# Altium footprint library Connector_Samtec.PcbLib: 27 footprints (part 2 of 2)
Each footprint in its own frame and in the unit in brackets; x right, y up, seen from the top. Pads: shape width x height; smd on the part's side, far side on the other; paste and mask are expansions set on the pad; w line width, h text height; cw(c..) or ccw(c..) is an arc to the next point about the centre after c.
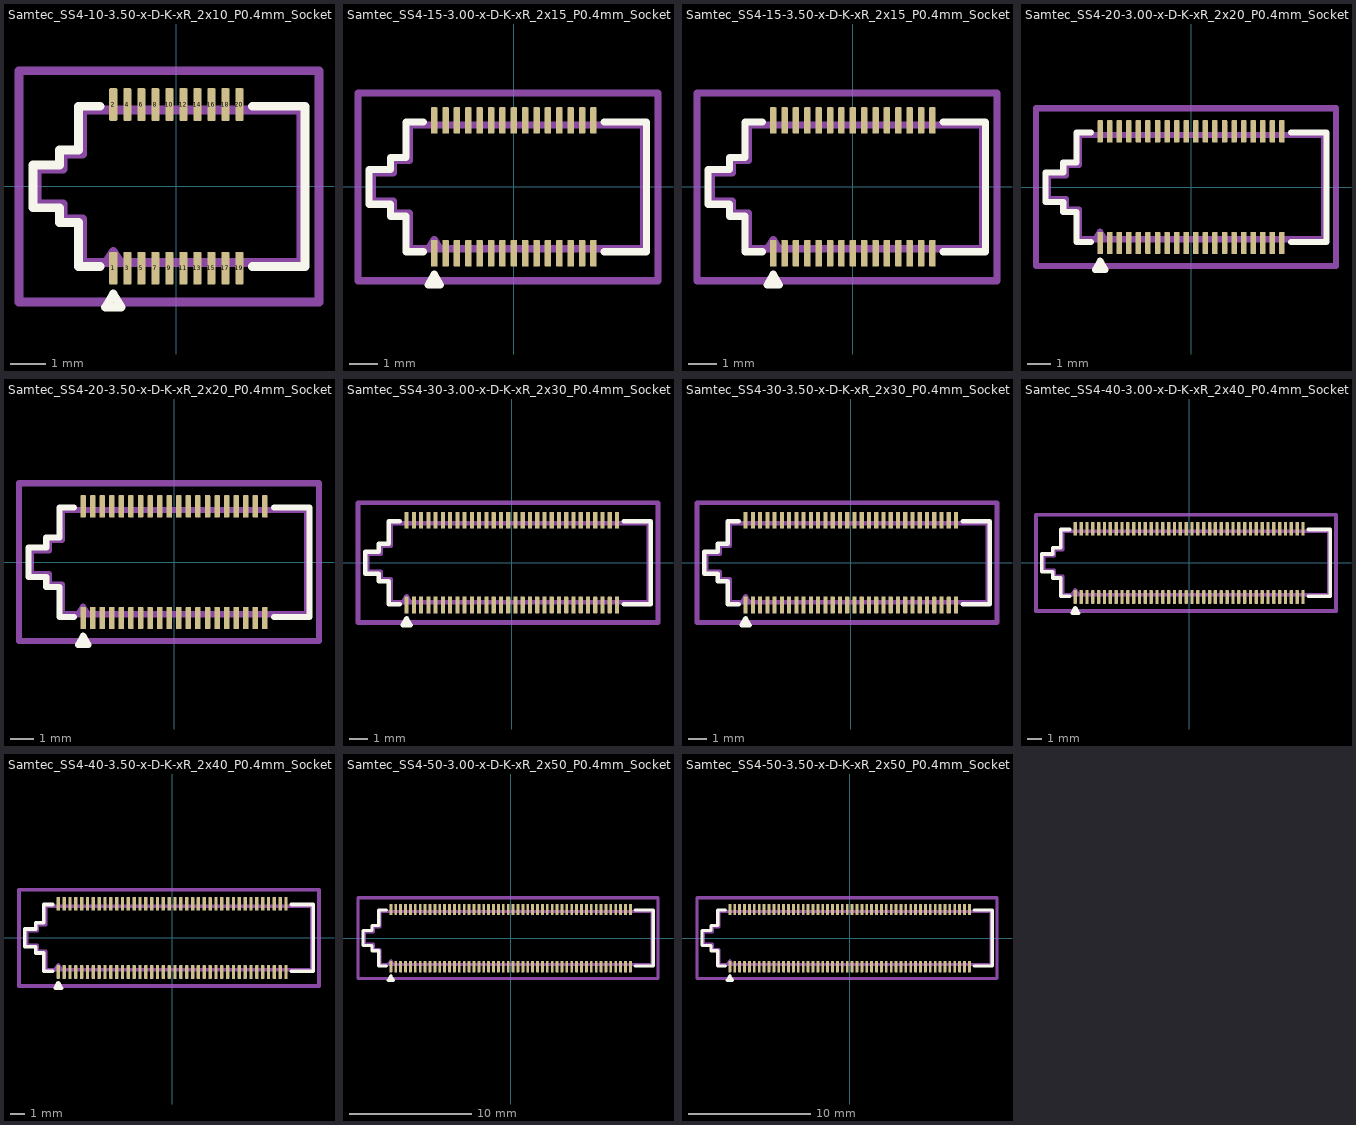
[diagram p1: the footprints below, top view; thin cyan lines are the x and y axes]

## Samtec_SS4-10-3.50-x-D-K-xR_2x10_P0.4mm_Socket [mm]
pads (20):
  rrect25% 0.23x0.93 smd: 1(-1.8,-2.335) 2(-1.8,2.335) 3(-1.4,-2.335) 4(-1.4,2.335) 5(-1,-2.335) 6(-1,2.335) 7(-0.6,-2.335) 8(-0.6,2.335) 9(-0.2,-2.335) 10(-0.2,2.335) 11(0.2,-2.335) 12(0.2,2.335) 13(0.6,-2.335) 14(0.6,2.335) 15(1,-2.335) 16(1,2.335) 17(1.4,-2.335) 18(1.4,2.335) 19(1.8,-2.335) 20(1.8,2.335)
F.SilkS:
  lines w0.254: -2.175,-2.285 -2.79,-2.285 -2.79,-1.035 -3.34,-1.035 -3.34,-0.61 -4.09,-0.61 -4.09,0.61 -3.34,0.61 -3.34,1.035 -2.79,1.035 -2.79,2.285 -2.175,2.285 ; 2.175,-2.285 3.67,-2.285 3.67,2.285 2.175,2.285 ; -2.017,-3.45 -1.583,-3.45 -1.8,-3.075 -2.017,-3.45
Top Assembly:
  lines w0.254: -2,-2.175 -1.8,-1.855 -1.6,-2.175 ; -3.98,-0.5 -3.23,-0.5 -3.23,-0.925 -2.68,-0.925 -2.68,-2.175 3.56,-2.175 3.56,2.175 -2.68,2.175 -2.68,0.925 -3.23,0.925 -3.23,0.5 -3.98,0.5 -3.98,-0.5
  text "'.Designator'" at -3.647,-0.761 h0.9
Top Courtyard:
  lines w0.254: -4.49,-3.3 4.07,-3.3 4.07,3.3 -4.49,3.3 -4.49,-3.3
Top Designator:
  text ".Designator" at -7.828,-0.583 h1.52

## Samtec_SS4-15-3.00-x-D-K-xR_2x15_P0.4mm_Socket [mm]
pads (30):
  rrect25% 0.23x0.93 smd: 1(-2.8,-2.335) 2(-2.8,2.335) 3(-2.4,-2.335) 4(-2.4,2.335) 5(-2,-2.335) 6(-2,2.335) 7(-1.6,-2.335) 8(-1.6,2.335) 9(-1.2,-2.335) 10(-1.2,2.335) 11(-0.8,-2.335) 12(-0.8,2.335) 13(-0.4,-2.335) 14(-0.4,2.335) 15(0,-2.335) 16(0,2.335) 17(0.4,-2.335) 18(0.4,2.335) 19(0.8,-2.335) 20(0.8,2.335) 21(1.2,-2.335) 22(1.2,2.335) 23(1.6,-2.335) 24(1.6,2.335) 25(2,-2.335) 26(2,2.335) 27(2.4,-2.335) 28(2.4,2.335) 29(2.8,-2.335) 30(2.8,2.335)
F.SilkS:
  lines w0.254: -3.175,-2.285 -3.79,-2.285 -3.79,-1.035 -4.34,-1.035 -4.34,-0.61 -5.09,-0.61 -5.09,0.61 -4.34,0.61 -4.34,1.035 -3.79,1.035 -3.79,2.285 -3.175,2.285 ; 3.175,-2.285 4.67,-2.285 4.67,2.285 3.175,2.285 ; -3.017,-3.45 -2.583,-3.45 -2.8,-3.075 -3.017,-3.45
Top Assembly:
  lines w0.254: -3,-2.175 -2.8,-1.855 -2.6,-2.175 ; -4.98,-0.5 -4.23,-0.5 -4.23,-0.925 -3.68,-0.925 -3.68,-2.175 4.56,-2.175 4.56,2.175 -3.68,2.175 -3.68,0.925 -4.23,0.925 -4.23,0.5 -4.98,0.5 -4.98,-0.5
  text "'.Designator'" at -4.047,-0.84 h1
Top Courtyard:
  lines w0.254: -5.48,-3.3 5.07,-3.3 5.07,3.3 -5.48,3.3 -5.48,-3.3
Top Designator:
  text ".Designator" at -7.823,-0.583 h1.52

## Samtec_SS4-15-3.50-x-D-K-xR_2x15_P0.4mm_Socket [mm]
pads (30):
  rrect25% 0.23x0.93 smd: 1(-2.8,-2.335) 2(-2.8,2.335) 3(-2.4,-2.335) 4(-2.4,2.335) 5(-2,-2.335) 6(-2,2.335) 7(-1.6,-2.335) 8(-1.6,2.335) 9(-1.2,-2.335) 10(-1.2,2.335) 11(-0.8,-2.335) 12(-0.8,2.335) 13(-0.4,-2.335) 14(-0.4,2.335) 15(0,-2.335) 16(0,2.335) 17(0.4,-2.335) 18(0.4,2.335) 19(0.8,-2.335) 20(0.8,2.335) 21(1.2,-2.335) 22(1.2,2.335) 23(1.6,-2.335) 24(1.6,2.335) 25(2,-2.335) 26(2,2.335) 27(2.4,-2.335) 28(2.4,2.335) 29(2.8,-2.335) 30(2.8,2.335)
F.SilkS:
  lines w0.254: -3.175,-2.285 -3.79,-2.285 -3.79,-1.035 -4.34,-1.035 -4.34,-0.61 -5.09,-0.61 -5.09,0.61 -4.34,0.61 -4.34,1.035 -3.79,1.035 -3.79,2.285 -3.175,2.285 ; 3.175,-2.285 4.67,-2.285 4.67,2.285 3.175,2.285 ; -3.017,-3.45 -2.583,-3.45 -2.8,-3.075 -3.017,-3.45
Top Assembly:
  lines w0.254: -3,-2.175 -2.8,-1.855 -2.6,-2.175 ; -4.98,-0.5 -4.23,-0.5 -4.23,-0.925 -3.68,-0.925 -3.68,-2.175 4.56,-2.175 4.56,2.175 -3.68,2.175 -3.68,0.925 -4.23,0.925 -4.23,0.5 -4.98,0.5 -4.98,-0.5
  text "'.Designator'" at -4.047,-0.84 h1
Top Courtyard:
  lines w0.254: -5.48,-3.3 5.07,-3.3 5.07,3.3 -5.48,3.3 -5.48,-3.3
Top Designator:
  text ".Designator" at -7.823,-0.583 h1.52

## Samtec_SS4-20-3.00-x-D-K-xR_2x20_P0.4mm_Socket [mm]
pads (40):
  rrect25% 0.23x0.93 smd: 1(-3.8,-2.335) 2(-3.8,2.335) 3(-3.4,-2.335) 4(-3.4,2.335) 5(-3,-2.335) 6(-3,2.335) 7(-2.6,-2.335) 8(-2.6,2.335) 9(-2.2,-2.335) 10(-2.2,2.335) 11(-1.8,-2.335) 12(-1.8,2.335) 13(-1.4,-2.335) 14(-1.4,2.335) 15(-1,-2.335) 16(-1,2.335) 17(-0.6,-2.335) 18(-0.6,2.335) 19(-0.2,-2.335) 20(-0.2,2.335) 21(0.2,-2.335) 22(0.2,2.335) 23(0.6,-2.335) 24(0.6,2.335) 25(1,-2.335) 26(1,2.335) 27(1.4,-2.335) 28(1.4,2.335) 29(1.8,-2.335) 30(1.8,2.335) 31(2.2,-2.335) 32(2.2,2.335) 33(2.6,-2.335) 34(2.6,2.335) 35(3,-2.335) 36(3,2.335) 37(3.4,-2.335) 38(3.4,2.335) 39(3.8,-2.335) 40(3.8,2.335)
F.SilkS:
  lines w0.254: -4.175,-2.285 -4.79,-2.285 -4.79,-1.035 -5.34,-1.035 -5.34,-0.61 -6.09,-0.61 -6.09,0.61 -5.34,0.61 -5.34,1.035 -4.79,1.035 -4.79,2.285 -4.175,2.285 ; 4.175,-2.285 5.67,-2.285 5.67,2.285 4.175,2.285 ; -4.017,-3.45 -3.583,-3.45 -3.8,-3.075 -4.017,-3.45
Top Assembly:
  lines w0.254: -4,-2.175 -3.8,-1.855 -3.6,-2.175 ; -5.98,-0.5 -5.23,-0.5 -5.23,-0.925 -4.68,-0.925 -4.68,-2.175 5.56,-2.175 5.56,2.175 -4.68,2.175 -4.68,0.925 -5.23,0.925 -5.23,0.5 -5.98,0.5 -5.98,-0.5
  text "'.Designator'" at -4.047,-0.84 h1
Top Courtyard:
  lines w0.254: -6.48,-3.3 6.06,-3.3 6.06,3.3 -6.48,3.3 -6.48,-3.3
Top Designator:
  text ".Designator" at -7.828,-0.583 h1.52

## Samtec_SS4-20-3.50-x-D-K-xR_2x20_P0.4mm_Socket [mm]
pads (40):
  rrect25% 0.23x0.93 smd: 1(-3.8,-2.335) 2(-3.8,2.335) 3(-3.4,-2.335) 4(-3.4,2.335) 5(-3,-2.335) 6(-3,2.335) 7(-2.6,-2.335) 8(-2.6,2.335) 9(-2.2,-2.335) 10(-2.2,2.335) 11(-1.8,-2.335) 12(-1.8,2.335) 13(-1.4,-2.335) 14(-1.4,2.335) 15(-1,-2.335) 16(-1,2.335) 17(-0.6,-2.335) 18(-0.6,2.335) 19(-0.2,-2.335) 20(-0.2,2.335) 21(0.2,-2.335) 22(0.2,2.335) 23(0.6,-2.335) 24(0.6,2.335) 25(1,-2.335) 26(1,2.335) 27(1.4,-2.335) 28(1.4,2.335) 29(1.8,-2.335) 30(1.8,2.335) 31(2.2,-2.335) 32(2.2,2.335) 33(2.6,-2.335) 34(2.6,2.335) 35(3,-2.335) 36(3,2.335) 37(3.4,-2.335) 38(3.4,2.335) 39(3.8,-2.335) 40(3.8,2.335)
F.SilkS:
  lines w0.254: -4.175,-2.285 -4.79,-2.285 -4.79,-1.035 -5.34,-1.035 -5.34,-0.61 -6.09,-0.61 -6.09,0.61 -5.34,0.61 -5.34,1.035 -4.79,1.035 -4.79,2.285 -4.175,2.285 ; 4.175,-2.285 5.67,-2.285 5.67,2.285 4.175,2.285 ; -4.017,-3.45 -3.583,-3.45 -3.8,-3.075 -4.017,-3.45
Top Assembly:
  lines w0.254: -4,-2.175 -3.8,-1.855 -3.6,-2.175 ; -5.98,-0.5 -5.23,-0.5 -5.23,-0.925 -4.68,-0.925 -4.68,-2.175 5.56,-2.175 5.56,2.175 -4.68,2.175 -4.68,0.925 -5.23,0.925 -5.23,0.5 -5.98,0.5 -5.98,-0.5
  text "'.Designator'" at -4.047,-0.84 h1
Top Courtyard:
  lines w0.254: -6.48,-3.3 6.06,-3.3 6.06,3.3 -6.48,3.3 -6.48,-3.3
Top Designator:
  text ".Designator" at -7.828,-0.583 h1.52

## Samtec_SS4-30-3.00-x-D-K-xR_2x30_P0.4mm_Socket [mm]
pads (60):
  rrect25% 0.23x0.93 smd: 1(-5.8,-2.335) 2(-5.8,2.335) 3(-5.4,-2.335) 4(-5.4,2.335) 5(-5,-2.335) 6(-5,2.335) 7(-4.6,-2.335) 8(-4.6,2.335) 9(-4.2,-2.335) 10(-4.2,2.335) 11(-3.8,-2.335) 12(-3.8,2.335) 13(-3.4,-2.335) 14(-3.4,2.335) 15(-3,-2.335) 16(-3,2.335) 17(-2.6,-2.335) 18(-2.6,2.335) 19(-2.2,-2.335) 20(-2.2,2.335) 21(-1.8,-2.335) 22(-1.8,2.335) 23(-1.4,-2.335) 24(-1.4,2.335) 25(-1,-2.335) 26(-1,2.335) 27(-0.6,-2.335) 28(-0.6,2.335) 29(-0.2,-2.335) 30(-0.2,2.335) 31(0.2,-2.335) 32(0.2,2.335) 33(0.6,-2.335) 34(0.6,2.335) 35(1,-2.335) 36(1,2.335) 37(1.4,-2.335) 38(1.4,2.335) 39(1.8,-2.335) 40(1.8,2.335) 41(2.2,-2.335) 42(2.2,2.335) 43(2.6,-2.335) 44(2.6,2.335) 45(3,-2.335) 46(3,2.335) 47(3.4,-2.335) 48(3.4,2.335) 49(3.8,-2.335) 50(3.8,2.335) 51(4.2,-2.335) 52(4.2,2.335) 53(4.6,-2.335) 54(4.6,2.335) 55(5,-2.335) 56(5,2.335) 57(5.4,-2.335) 58(5.4,2.335) 59(5.8,-2.335) 60(5.8,2.335)
F.SilkS:
  lines w0.254: -6.175,-2.285 -6.79,-2.285 -6.79,-1.035 -7.34,-1.035 -7.34,-0.61 -8.09,-0.61 -8.09,0.61 -7.34,0.61 -7.34,1.035 -6.79,1.035 -6.79,2.285 -6.175,2.285 ; 6.175,-2.285 7.67,-2.285 7.67,2.285 6.175,2.285 ; -6.017,-3.45 -5.583,-3.45 -5.8,-3.075 -6.017,-3.45
Top Assembly:
  lines w0.254: -6,-2.175 -5.8,-1.855 -5.6,-2.175 ; -7.98,-0.5 -7.23,-0.5 -7.23,-0.925 -6.68,-0.925 -6.68,-2.175 7.56,-2.175 7.56,2.175 -6.68,2.175 -6.68,0.925 -7.23,0.925 -7.23,0.5 -7.98,0.5 -7.98,-0.5
  text "'.Designator'" at -4.047,-0.84 h1
Top Courtyard:
  lines w0.254: -8.48,-3.3 8.06,-3.3 8.06,3.3 -8.48,3.3 -8.48,-3.3
Top Designator:
  text ".Designator" at -7.828,-0.583 h1.52

## Samtec_SS4-30-3.50-x-D-K-xR_2x30_P0.4mm_Socket [mm]
pads (60):
  rrect25% 0.23x0.93 smd: 1(-5.8,-2.335) 2(-5.8,2.335) 3(-5.4,-2.335) 4(-5.4,2.335) 5(-5,-2.335) 6(-5,2.335) 7(-4.6,-2.335) 8(-4.6,2.335) 9(-4.2,-2.335) 10(-4.2,2.335) 11(-3.8,-2.335) 12(-3.8,2.335) 13(-3.4,-2.335) 14(-3.4,2.335) 15(-3,-2.335) 16(-3,2.335) 17(-2.6,-2.335) 18(-2.6,2.335) 19(-2.2,-2.335) 20(-2.2,2.335) 21(-1.8,-2.335) 22(-1.8,2.335) 23(-1.4,-2.335) 24(-1.4,2.335) 25(-1,-2.335) 26(-1,2.335) 27(-0.6,-2.335) 28(-0.6,2.335) 29(-0.2,-2.335) 30(-0.2,2.335) 31(0.2,-2.335) 32(0.2,2.335) 33(0.6,-2.335) 34(0.6,2.335) 35(1,-2.335) 36(1,2.335) 37(1.4,-2.335) 38(1.4,2.335) 39(1.8,-2.335) 40(1.8,2.335) 41(2.2,-2.335) 42(2.2,2.335) 43(2.6,-2.335) 44(2.6,2.335) 45(3,-2.335) 46(3,2.335) 47(3.4,-2.335) 48(3.4,2.335) 49(3.8,-2.335) 50(3.8,2.335) 51(4.2,-2.335) 52(4.2,2.335) 53(4.6,-2.335) 54(4.6,2.335) 55(5,-2.335) 56(5,2.335) 57(5.4,-2.335) 58(5.4,2.335) 59(5.8,-2.335) 60(5.8,2.335)
F.SilkS:
  lines w0.254: -6.175,-2.285 -6.79,-2.285 -6.79,-1.035 -7.34,-1.035 -7.34,-0.61 -8.09,-0.61 -8.09,0.61 -7.34,0.61 -7.34,1.035 -6.79,1.035 -6.79,2.285 -6.175,2.285 ; 6.175,-2.285 7.67,-2.285 7.67,2.285 6.175,2.285 ; -6.017,-3.45 -5.583,-3.45 -5.8,-3.075 -6.017,-3.45
Top Assembly:
  lines w0.254: -6,-2.175 -5.8,-1.855 -5.6,-2.175 ; -7.98,-0.5 -7.23,-0.5 -7.23,-0.925 -6.68,-0.925 -6.68,-2.175 7.56,-2.175 7.56,2.175 -6.68,2.175 -6.68,0.925 -7.23,0.925 -7.23,0.5 -7.98,0.5 -7.98,-0.5
  text "'.Designator'" at -4.047,-0.84 h1
Top Courtyard:
  lines w0.254: -8.48,-3.3 8.06,-3.3 8.06,3.3 -8.48,3.3 -8.48,-3.3
Top Designator:
  text ".Designator" at -7.828,-0.583 h1.52

## Samtec_SS4-40-3.00-x-D-K-xR_2x40_P0.4mm_Socket [mm]
pads (80):
  rrect25% 0.23x0.93 smd: 1(-7.8,-2.335) 2(-7.8,2.335) 3(-7.4,-2.335) 4(-7.4,2.335) 5(-7,-2.335) 6(-7,2.335) 7(-6.6,-2.335) 8(-6.6,2.335) 9(-6.2,-2.335) 10(-6.2,2.335) 11(-5.8,-2.335) 12(-5.8,2.335) 13(-5.4,-2.335) 14(-5.4,2.335) 15(-5,-2.335) 16(-5,2.335) 17(-4.6,-2.335) 18(-4.6,2.335) 19(-4.2,-2.335) 20(-4.2,2.335) 21(-3.8,-2.335) 22(-3.8,2.335) 23(-3.4,-2.335) 24(-3.4,2.335) 25(-3,-2.335) 26(-3,2.335) 27(-2.6,-2.335) 28(-2.6,2.335) 29(-2.2,-2.335) 30(-2.2,2.335) 31(-1.8,-2.335) 32(-1.8,2.335) 33(-1.4,-2.335) 34(-1.4,2.335) 35(-1,-2.335) 36(-1,2.335) 37(-0.6,-2.335) 38(-0.6,2.335) 39(-0.2,-2.335) 40(-0.2,2.335) 41(0.2,-2.335) 42(0.2,2.335) 43(0.6,-2.335) 44(0.6,2.335) 45(1,-2.335) 46(1,2.335) 47(1.4,-2.335) 48(1.4,2.335) 49(1.8,-2.335) 50(1.8,2.335) 51(2.2,-2.335) 52(2.2,2.335) 53(2.6,-2.335) 54(2.6,2.335) 55(3,-2.335) 56(3,2.335) 57(3.4,-2.335) 58(3.4,2.335) 59(3.8,-2.335) 60(3.8,2.335) 61(4.2,-2.335) 62(4.2,2.335) 63(4.6,-2.335) 64(4.6,2.335) 65(5,-2.335) 66(5,2.335) 67(5.4,-2.335) 68(5.4,2.335) 69(5.8,-2.335) 70(5.8,2.335) 71(6.2,-2.335) 72(6.2,2.335) 73(6.6,-2.335) 74(6.6,2.335) 75(7,-2.335) 76(7,2.335) 77(7.4,-2.335) 78(7.4,2.335) 79(7.8,-2.335) 80(7.8,2.335)
F.SilkS:
  lines w0.254: -8.175,-2.285 -8.79,-2.285 -8.79,-1.035 -9.34,-1.035 -9.34,-0.61 -10.09,-0.61 -10.09,0.61 -9.34,0.61 -9.34,1.035 -8.79,1.035 -8.79,2.285 -8.175,2.285 ; 8.175,-2.285 9.67,-2.285 9.67,2.285 8.175,2.285 ; -8.017,-3.45 -7.583,-3.45 -7.8,-3.075 -8.017,-3.45
Top Assembly:
  lines w0.254: -8,-2.175 -7.8,-1.855 -7.6,-2.175 ; -9.98,-0.5 -9.23,-0.5 -9.23,-0.925 -8.68,-0.925 -8.68,-2.175 9.56,-2.175 9.56,2.175 -8.68,2.175 -8.68,0.925 -9.23,0.925 -9.23,0.5 -9.98,0.5 -9.98,-0.5
  text "'.Designator'" at -4.047,-0.84 h1
Top Courtyard:
  lines w0.254: -10.49,-3.3 10.06,-3.3 10.06,3.3 -10.49,3.3 -10.49,-3.3
Top Designator:
  text ".Designator" at -7.833,-0.583 h1.52

## Samtec_SS4-40-3.50-x-D-K-xR_2x40_P0.4mm_Socket [mm]
pads (80):
  rrect25% 0.23x0.93 smd: 1(-7.8,-2.335) 2(-7.8,2.335) 3(-7.4,-2.335) 4(-7.4,2.335) 5(-7,-2.335) 6(-7,2.335) 7(-6.6,-2.335) 8(-6.6,2.335) 9(-6.2,-2.335) 10(-6.2,2.335) 11(-5.8,-2.335) 12(-5.8,2.335) 13(-5.4,-2.335) 14(-5.4,2.335) 15(-5,-2.335) 16(-5,2.335) 17(-4.6,-2.335) 18(-4.6,2.335) 19(-4.2,-2.335) 20(-4.2,2.335) 21(-3.8,-2.335) 22(-3.8,2.335) 23(-3.4,-2.335) 24(-3.4,2.335) 25(-3,-2.335) 26(-3,2.335) 27(-2.6,-2.335) 28(-2.6,2.335) 29(-2.2,-2.335) 30(-2.2,2.335) 31(-1.8,-2.335) 32(-1.8,2.335) 33(-1.4,-2.335) 34(-1.4,2.335) 35(-1,-2.335) 36(-1,2.335) 37(-0.6,-2.335) 38(-0.6,2.335) 39(-0.2,-2.335) 40(-0.2,2.335) 41(0.2,-2.335) 42(0.2,2.335) 43(0.6,-2.335) 44(0.6,2.335) 45(1,-2.335) 46(1,2.335) 47(1.4,-2.335) 48(1.4,2.335) 49(1.8,-2.335) 50(1.8,2.335) 51(2.2,-2.335) 52(2.2,2.335) 53(2.6,-2.335) 54(2.6,2.335) 55(3,-2.335) 56(3,2.335) 57(3.4,-2.335) 58(3.4,2.335) 59(3.8,-2.335) 60(3.8,2.335) 61(4.2,-2.335) 62(4.2,2.335) 63(4.6,-2.335) 64(4.6,2.335) 65(5,-2.335) 66(5,2.335) 67(5.4,-2.335) 68(5.4,2.335) 69(5.8,-2.335) 70(5.8,2.335) 71(6.2,-2.335) 72(6.2,2.335) 73(6.6,-2.335) 74(6.6,2.335) 75(7,-2.335) 76(7,2.335) 77(7.4,-2.335) 78(7.4,2.335) 79(7.8,-2.335) 80(7.8,2.335)
F.SilkS:
  lines w0.254: -8.175,-2.285 -8.79,-2.285 -8.79,-1.035 -9.34,-1.035 -9.34,-0.61 -10.09,-0.61 -10.09,0.61 -9.34,0.61 -9.34,1.035 -8.79,1.035 -8.79,2.285 -8.175,2.285 ; 8.175,-2.285 9.67,-2.285 9.67,2.285 8.175,2.285 ; -8.017,-3.45 -7.583,-3.45 -7.8,-3.075 -8.017,-3.45
Top Assembly:
  lines w0.254: -8,-2.175 -7.8,-1.855 -7.6,-2.175 ; -9.98,-0.5 -9.23,-0.5 -9.23,-0.925 -8.68,-0.925 -8.68,-2.175 9.56,-2.175 9.56,2.175 -8.68,2.175 -8.68,0.925 -9.23,0.925 -9.23,0.5 -9.98,0.5 -9.98,-0.5
  text "'.Designator'" at -4.047,-0.84 h1
Top Courtyard:
  lines w0.254: -10.49,-3.3 10.06,-3.3 10.06,3.3 -10.49,3.3 -10.49,-3.3
Top Designator:
  text ".Designator" at -7.833,-0.583 h1.52

## Samtec_SS4-50-3.00-x-D-K-xR_2x50_P0.4mm_Socket [mm]
pads (100):
  rrect25% 0.23x0.93 smd: 1(-9.8,-2.335) 2(-9.8,2.335) 3(-9.4,-2.335) 4(-9.4,2.335) 5(-9,-2.335) 6(-9,2.335) 7(-8.6,-2.335) 8(-8.6,2.335) 9(-8.2,-2.335) 10(-8.2,2.335) 11(-7.8,-2.335) 12(-7.8,2.335) 13(-7.4,-2.335) 14(-7.4,2.335) 15(-7,-2.335) 16(-7,2.335) 17(-6.6,-2.335) 18(-6.6,2.335) 19(-6.2,-2.335) 20(-6.2,2.335) 21(-5.8,-2.335) 22(-5.8,2.335) 23(-5.4,-2.335) 24(-5.4,2.335) 25(-5,-2.335) 26(-5,2.335) 27(-4.6,-2.335) 28(-4.6,2.335) 29(-4.2,-2.335) 30(-4.2,2.335) 31(-3.8,-2.335) 32(-3.8,2.335) 33(-3.4,-2.335) 34(-3.4,2.335) 35(-3,-2.335) 36(-3,2.335) 37(-2.6,-2.335) 38(-2.6,2.335) 39(-2.2,-2.335) 40(-2.2,2.335) 41(-1.8,-2.335) 42(-1.8,2.335) 43(-1.4,-2.335) 44(-1.4,2.335) 45(-1,-2.335) 46(-1,2.335) 47(-0.6,-2.335) 48(-0.6,2.335) 49(-0.2,-2.335) 50(-0.2,2.335) 51(0.2,-2.335) 52(0.2,2.335) 53(0.6,-2.335) 54(0.6,2.335) 55(1,-2.335) 56(1,2.335) 57(1.4,-2.335) 58(1.4,2.335) 59(1.8,-2.335) 60(1.8,2.335) 61(2.2,-2.335) 62(2.2,2.335) 63(2.6,-2.335) 64(2.6,2.335) 65(3,-2.335) 66(3,2.335) 67(3.4,-2.335) 68(3.4,2.335) 69(3.8,-2.335) 70(3.8,2.335) 71(4.2,-2.335) 72(4.2,2.335) 73(4.6,-2.335) 74(4.6,2.335) 75(5,-2.335) 76(5,2.335) 77(5.4,-2.335) 78(5.4,2.335) 79(5.8,-2.335) 80(5.8,2.335) 81(6.2,-2.335) 82(6.2,2.335) 83(6.6,-2.335) 84(6.6,2.335) 85(7,-2.335) 86(7,2.335) 87(7.4,-2.335) 88(7.4,2.335) 89(7.8,-2.335) 90(7.8,2.335) 91(8.2,-2.335) 92(8.2,2.335) 93(8.6,-2.335) 94(8.6,2.335) 95(9,-2.335) 96(9,2.335) 97(9.4,-2.335) 98(9.4,2.335) 99(9.8,-2.335) 100(9.8,2.335)
F.SilkS:
  lines w0.254: -10.175,-2.285 -10.79,-2.285 -10.79,-1.035 -11.34,-1.035 -11.34,-0.61 -12.09,-0.61 -12.09,0.61 -11.34,0.61 -11.34,1.035 -10.79,1.035 -10.79,2.285 -10.175,2.285 ; 10.175,-2.285 11.67,-2.285 11.67,2.285 10.175,2.285 ; -10.017,-3.45 -9.583,-3.45 -9.8,-3.075 -10.017,-3.45
Top Assembly:
  lines w0.254: -10,-2.175 -9.8,-1.855 -9.6,-2.175 ; -11.98,-0.5 -11.23,-0.5 -11.23,-0.925 -10.68,-0.925 -10.68,-2.175 11.56,-2.175 11.56,2.175 -10.68,2.175 -10.68,0.925 -11.23,0.925 -11.23,0.5 -11.98,0.5 -11.98,-0.5
  text "'.Designator'" at -4.047,-0.84 h1
Top Courtyard:
  lines w0.254: -12.49,-3.3 12.06,-3.3 12.06,3.3 -12.49,3.3 -12.49,-3.3
Top Designator:
  text ".Designator" at -7.833,-0.583 h1.52

## Samtec_SS4-50-3.50-x-D-K-xR_2x50_P0.4mm_Socket [mm]
pads (100):
  rrect25% 0.23x0.93 smd: 1(-9.8,-2.335) 2(-9.8,2.335) 3(-9.4,-2.335) 4(-9.4,2.335) 5(-9,-2.335) 6(-9,2.335) 7(-8.6,-2.335) 8(-8.6,2.335) 9(-8.2,-2.335) 10(-8.2,2.335) 11(-7.8,-2.335) 12(-7.8,2.335) 13(-7.4,-2.335) 14(-7.4,2.335) 15(-7,-2.335) 16(-7,2.335) 17(-6.6,-2.335) 18(-6.6,2.335) 19(-6.2,-2.335) 20(-6.2,2.335) 21(-5.8,-2.335) 22(-5.8,2.335) 23(-5.4,-2.335) 24(-5.4,2.335) 25(-5,-2.335) 26(-5,2.335) 27(-4.6,-2.335) 28(-4.6,2.335) 29(-4.2,-2.335) 30(-4.2,2.335) 31(-3.8,-2.335) 32(-3.8,2.335) 33(-3.4,-2.335) 34(-3.4,2.335) 35(-3,-2.335) 36(-3,2.335) 37(-2.6,-2.335) 38(-2.6,2.335) 39(-2.2,-2.335) 40(-2.2,2.335) 41(-1.8,-2.335) 42(-1.8,2.335) 43(-1.4,-2.335) 44(-1.4,2.335) 45(-1,-2.335) 46(-1,2.335) 47(-0.6,-2.335) 48(-0.6,2.335) 49(-0.2,-2.335) 50(-0.2,2.335) 51(0.2,-2.335) 52(0.2,2.335) 53(0.6,-2.335) 54(0.6,2.335) 55(1,-2.335) 56(1,2.335) 57(1.4,-2.335) 58(1.4,2.335) 59(1.8,-2.335) 60(1.8,2.335) 61(2.2,-2.335) 62(2.2,2.335) 63(2.6,-2.335) 64(2.6,2.335) 65(3,-2.335) 66(3,2.335) 67(3.4,-2.335) 68(3.4,2.335) 69(3.8,-2.335) 70(3.8,2.335) 71(4.2,-2.335) 72(4.2,2.335) 73(4.6,-2.335) 74(4.6,2.335) 75(5,-2.335) 76(5,2.335) 77(5.4,-2.335) 78(5.4,2.335) 79(5.8,-2.335) 80(5.8,2.335) 81(6.2,-2.335) 82(6.2,2.335) 83(6.6,-2.335) 84(6.6,2.335) 85(7,-2.335) 86(7,2.335) 87(7.4,-2.335) 88(7.4,2.335) 89(7.8,-2.335) 90(7.8,2.335) 91(8.2,-2.335) 92(8.2,2.335) 93(8.6,-2.335) 94(8.6,2.335) 95(9,-2.335) 96(9,2.335) 97(9.4,-2.335) 98(9.4,2.335) 99(9.8,-2.335) 100(9.8,2.335)
F.SilkS:
  lines w0.254: -10.175,-2.285 -10.79,-2.285 -10.79,-1.035 -11.34,-1.035 -11.34,-0.61 -12.09,-0.61 -12.09,0.61 -11.34,0.61 -11.34,1.035 -10.79,1.035 -10.79,2.285 -10.175,2.285 ; 10.175,-2.285 11.67,-2.285 11.67,2.285 10.175,2.285 ; -10.017,-3.45 -9.583,-3.45 -9.8,-3.075 -10.017,-3.45
Top Assembly:
  lines w0.254: -10,-2.175 -9.8,-1.855 -9.6,-2.175 ; -11.98,-0.5 -11.23,-0.5 -11.23,-0.925 -10.68,-0.925 -10.68,-2.175 11.56,-2.175 11.56,2.175 -10.68,2.175 -10.68,0.925 -11.23,0.925 -11.23,0.5 -11.98,0.5 -11.98,-0.5
  text "'.Designator'" at -4.047,-0.84 h1
Top Courtyard:
  lines w0.254: -12.49,-3.3 12.06,-3.3 12.06,3.3 -12.49,3.3 -12.49,-3.3
Top Designator:
  text ".Designator" at -7.833,-0.583 h1.52